# EAGLE library part DRV8871DDAR (library DRV8871DDAR)
3.6A Brushed DC Motor Driver with Integrated Current Sensing (PWM Ctrl) 8-SO PowerPAD -40 to 125
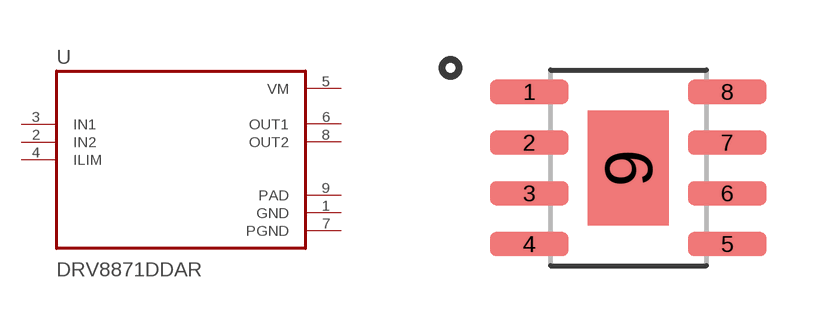
[diagram p0: symbol with the pads of SOIC127P600X170-8N; footprint SOIC127P600X170-8N]

Designator prefix U

## DRV8871DDAR (Availability: Unavailable; Description: 3.6A Brushed DC Motor Driver with Integrated Current Sensing _PWM Ctrl_ 8-SO PowerPAD -40 to 125; MF: Texas Instruments; MP: DRV8871DDAR; Package: SO-8 Texas Instruments; Price: None)  [SOIC127P600X170-8N]
1  GND  pwr
2  IN2  in
3  IN1  in
4  ILIM  in
5  VM  pwr
6  OUT1  out
7  PGND  pwr
8  OUT2  out
9  PAD  pwr

## Footprint SOIC127P600X170-8N (pad centres in mm)
smd 1.97 x 0.6: 1 -2.475,1.905; 2 -2.475,0.635; 3 -2.475,-0.635; 4 -2.475,-1.905; 5 2.475,-1.905; 6 2.475,-0.635; 7 2.475,0.635; 8 2.475,1.905
smd 2.02 x 2.87: 9 0,0